# Altium footprint library Crys_CTS_ATS16B_eec_0.PcbLib: 1 footprints
Each footprint in its own frame and in the unit in brackets; x right, y up, seen from the top. Pads: shape width x height; smd on the part's side, far side on the other; paste and mask are expansions set on the pad; w line width, h text height; cw(c..) or ccw(c..) is an arc to the next point about the centre after c.
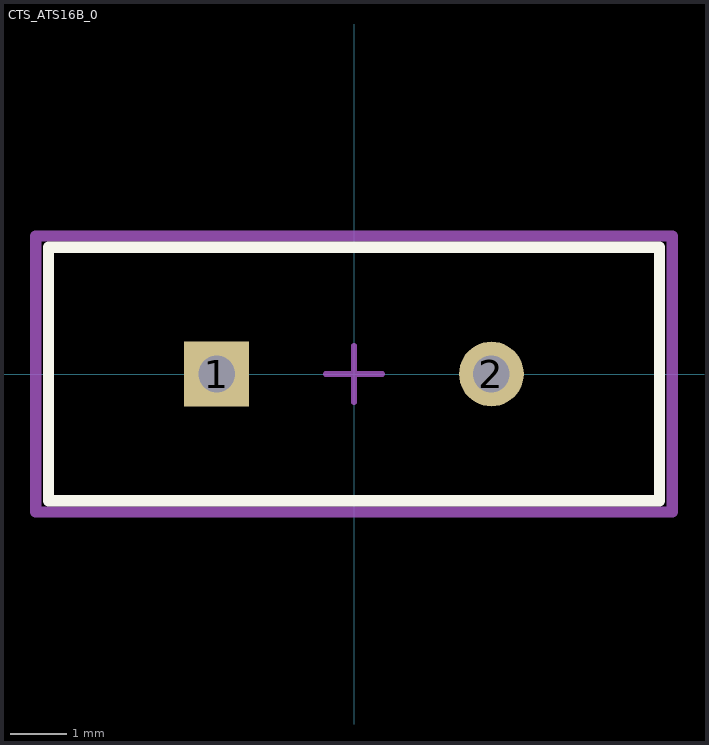
[diagram p0: the footprint, top view; thin cyan lines are the x and y axes]

## CTS_ATS16B_0 [mm]
pads (2):
  rect 1.15x1.15 hole 0.65 paste-1000 mask+0: 1(-2.44,0)
  round 1.15 hole 0.65 paste-1000 mask+0: 2(2.44,0)
Top Overlay:
  lines w0.2: -5.425,-2.25 5.425,-2.25 5.425,2.25 -5.425,2.25 -5.425,-2.25
Mechanical 10:
  lines w0.2: -5.65,-2.45 5.65,-2.45 5.65,2.45 -5.65,2.45 -5.65,-2.45
  text ".Designator" at 0,0 h1
Mechanical 12:
  lines w0.15: -5.425,-2.25 5.425,-2.25 5.425,2.25 -5.425,2.25 -5.425,-2.25
Mechanical 15:
  lines w0.1: -0.5,0 0.5,0 ; 0,-0.5 0,0.5
  lines w0.2: -5.65,-2.45 5.65,-2.45 5.65,2.45 -5.65,2.45 -5.65,-2.45
3D body "3dmodel.step": height 0.25, standoff 0, extent -5.65,-2.45 5.65,2.45